# Altium schematic symbol library PLL Synthesizers and VCOs.SchLib: 183 symbols (part 9 of 15)
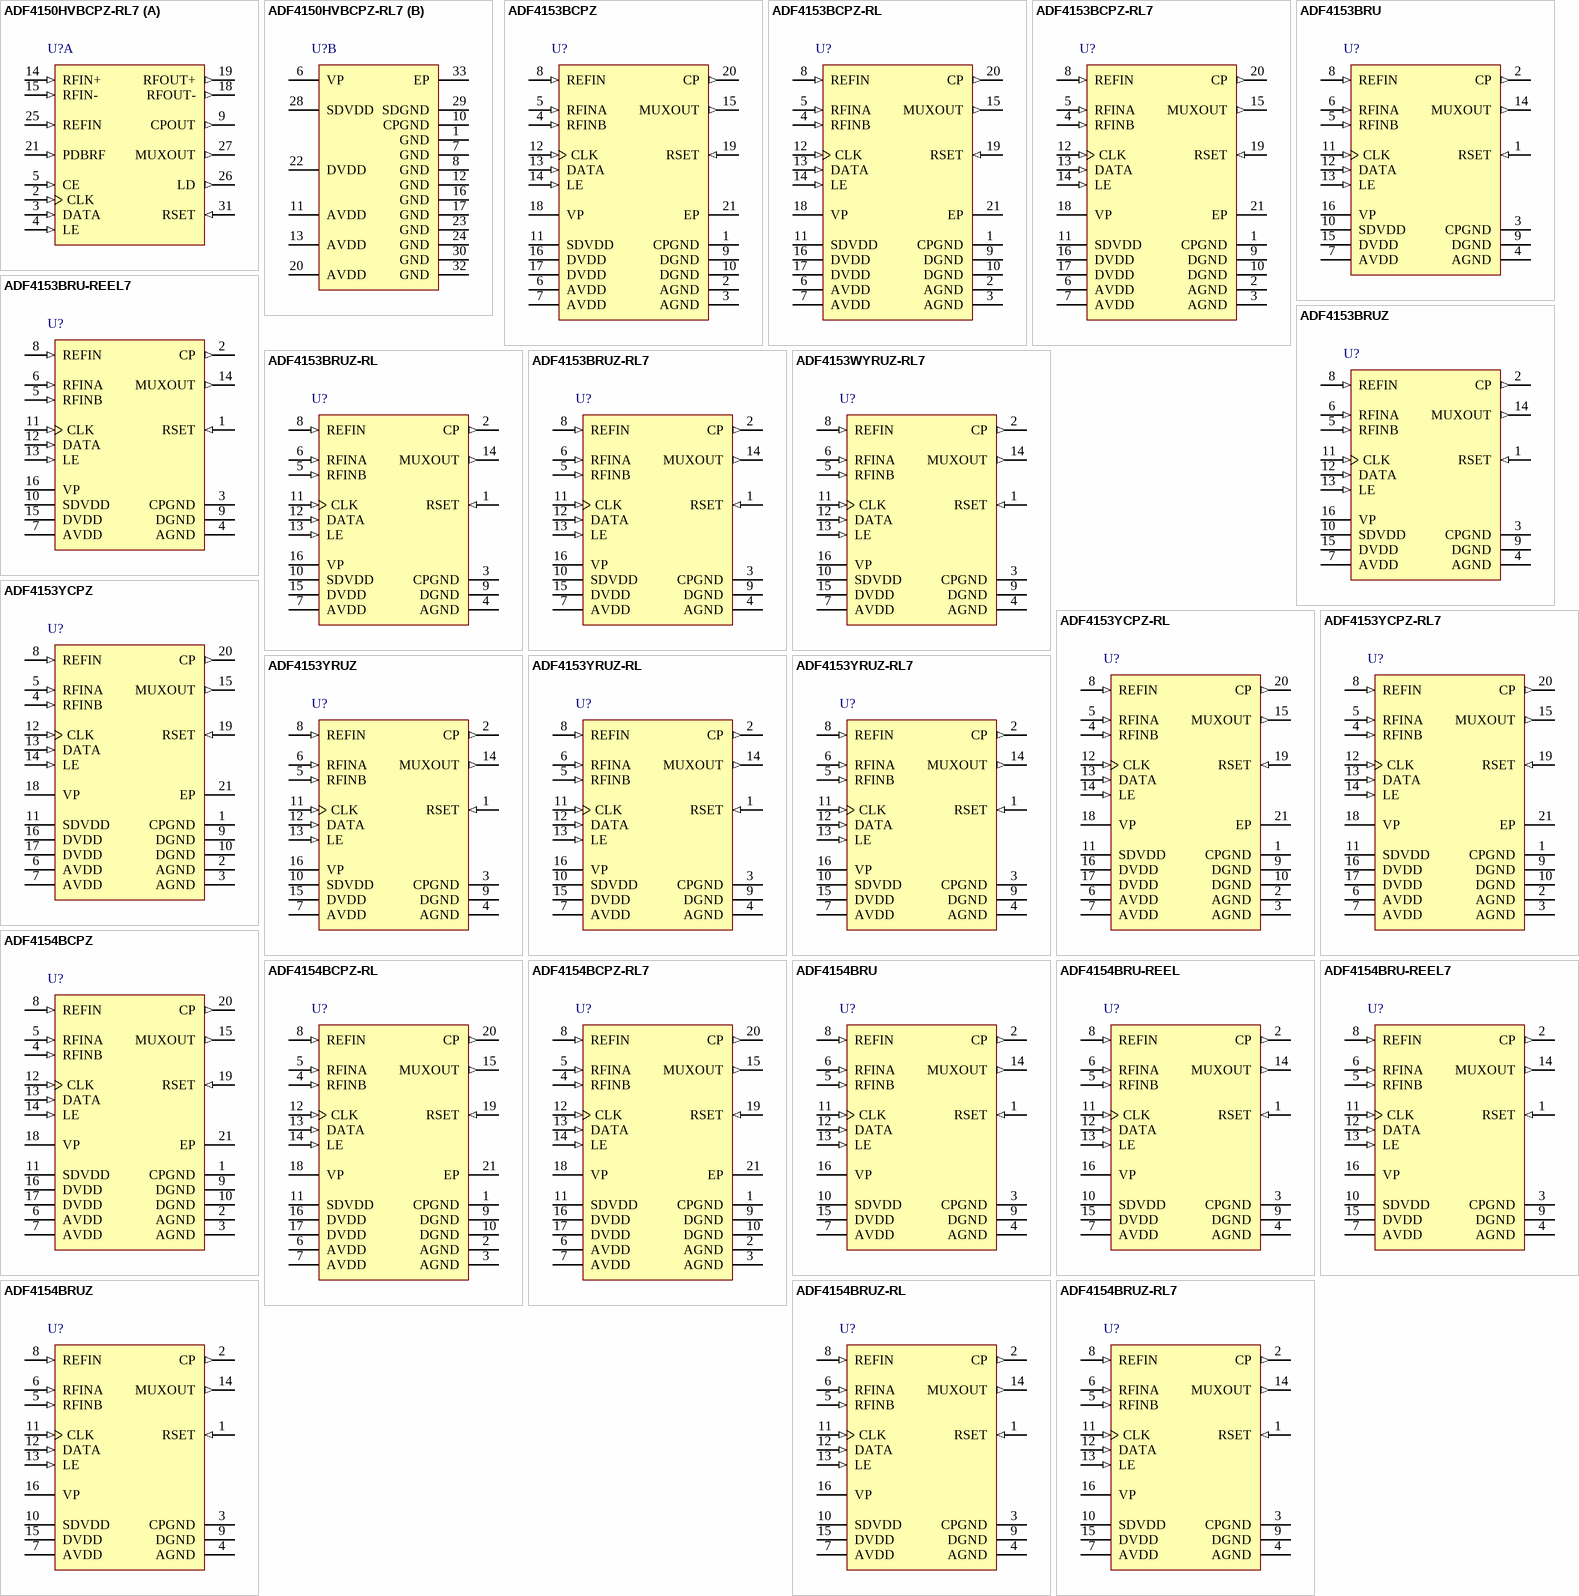
[diagram p16: symbols ADF4150HVBCPZ-RL7 to ADF4154BRUZ-RL7]

## ADF4153BRUZ-RL7
designator U?
Fractional-N Frequency Synthesizer, RU-16, Pb-Free, 1000 Reel; Single/Dual: Single; Max RF Input (MHz): 4GHz; RF Prescalers: 4/5, 8/9; Max REFin (MHz): 250MHz; Norm Phase Noise (dBc/Hz): -220dBc; Supply Current: 20mA; DatasheetVersion: RevD; PackageVersion: Nov-2002; PackageReference: RU-16; PackageDescription: 16-Lead Thin Shrink Small Outline Package [TSSOP]; Code_JEDEC: MO-153AB; ComponentLink1Description: Manufacturer URL; ComponentLink1URL: www.analog.com; ComponentLink2Description: Datasheet; ComponentLink2URL: http://www.analog.com/static/imported-files/data_sheets/ADF4153.pdf; ComponentLink3Description: Package Specification; ComponentLink3URL: http://www.analog.com/static/imported-files/packages/36244347913743854010197452789RU16.pdf
footprint ADI-RU-16_N (TSOP, 16-Leads, Body 5x4.4mm, Pitch 0.65mm, IPC Medium Density)
footprint ADI-RU-16_L (TSOP, 16-Leads, Body 5x4.4mm, Pitch 0.65mm, IPC High Density)
footprint ADI-RU-16_M (TSOP, 16-Leads, Body 5x4.4mm, Pitch 0.65mm, IPC Low Density)
pins: 1 RSET (in) "Connecting a resistor between RSET and ground sets the maximum charge pump output current", 2 CP (out) "Charge Pump Output. When enabled, CP provides +/-ICP to the external loop filter, which in turn drives the external VCO.", 3 CPGND (power) "Charge Pump Ground. This is the ground return path for the charge pump.", 4 AGND (power) "Analog Ground. This is the ground return path of the prescaler.", 5 RFINB (in) "Complementary Input to the RF Prescaler. This pin should be decoupled to the ground plane with a small bypass capacitor, typically 100 pF", 6 RFINA (in) "Input to the RF Prescaler. This small signal input is normally ac-coupled from the VCO.", 7 AVDD (power) "Positive Power Supply for the RF Section. Decoupling capacitors to the digital ground plane should be placed as close as possible to this pin. [see datasheet]", 8 REFIN (in) "Reference Input. This is a CMOS input with a nominal threshold of VDD/2 and an equivalent input resistance of 100 k ohm. [see datasheet]", 9 DGND (power) "Digital Ground.", 10 SDVDD (power) "Sigma-Delta Power. Decoupling capacitors to the digital ground plane should be placed as close as possible to this pin. SDVDD has a value of 3 V+/-10%. [see datasheet]", 11 CLK (in) "Serial Clock Input. The serial clock is used to clock in the serial data to the registers. The data is latched into the shift register on the CLK rising edge. [see datasheet]", 12 DATA (in) "Serial Data Input. The serial data is loaded MSB first; the two LSBs are the control bits. This input is a high impedance CMOS input.", 13 LE (in) "Load Enable, CMOS Input. When LE is high, the data stored in the shift registers is loaded into one of four latches; the latch is selected using the control bits.", 14 MUXOUT (out) "This multiplexer output allows either the RF lock detect, the scaled RF, or the scaled reference frequency to be externally accessed.", 15 DVDD (power) "Positive Power Supply for the Digital Section. Decoupling capacitors to the digital ground plane should be placed as close as possible to this pin. [see datasheet]", 16 VP (power) "Charge Pump Power Supply. This should be greater than or equal to VDD. In systems where VDD is 3 V, it can be set to 5.5 V and used to drive a VCO with a tuning range of up to 5.5 V."

## ADF4153WYRUZ-RL7
designator U?
Fractional-N Frequency Synthesizer, RU-16, Pb-Free, 1000 Reel; Single/Dual: Single; Max RF Input (MHz): 4GHz; RF Prescalers: 4/5, 8/9; Max REFin (MHz): 250MHz; Norm Phase Noise (dBc/Hz): -220dBc; Supply Current: 20mA; DatasheetVersion: RevD; PackageVersion: Nov-2002; PackageReference: RU-16; PackageDescription: 16-Lead Thin Shrink Small Outline Package [TSSOP]; Code_JEDEC: MO-153AB; ComponentLink1Description: Manufacturer URL; ComponentLink1URL: www.analog.com; ComponentLink2Description: Datasheet; ComponentLink2URL: http://www.analog.com/static/imported-files/data_sheets/ADF4153.pdf; ComponentLink3Description: Package Specification; ComponentLink3URL: http://www.analog.com/static/imported-files/packages/36244347913743854010197452789RU16.pdf
footprint ADI-RU-16_N (TSOP, 16-Leads, Body 5x4.4mm, Pitch 0.65mm, IPC Medium Density)
footprint ADI-RU-16_L (TSOP, 16-Leads, Body 5x4.4mm, Pitch 0.65mm, IPC High Density)
footprint ADI-RU-16_M (TSOP, 16-Leads, Body 5x4.4mm, Pitch 0.65mm, IPC Low Density)
pins: 1 RSET (in) "Connecting a resistor between RSET and ground sets the maximum charge pump output current", 2 CP (out) "Charge Pump Output. When enabled, CP provides +/-ICP to the external loop filter, which in turn drives the external VCO.", 3 CPGND (power) "Charge Pump Ground. This is the ground return path for the charge pump.", 4 AGND (power) "Analog Ground. This is the ground return path of the prescaler.", 5 RFINB (in) "Complementary Input to the RF Prescaler. This pin should be decoupled to the ground plane with a small bypass capacitor, typically 100 pF", 6 RFINA (in) "Input to the RF Prescaler. This small signal input is normally ac-coupled from the VCO.", 7 AVDD (power) "Positive Power Supply for the RF Section. Decoupling capacitors to the digital ground plane should be placed as close as possible to this pin. [see datasheet]", 8 REFIN (in) "Reference Input. This is a CMOS input with a nominal threshold of VDD/2 and an equivalent input resistance of 100 k ohm. [see datasheet]", 9 DGND (power) "Digital Ground.", 10 SDVDD (power) "Sigma-Delta Power. Decoupling capacitors to the digital ground plane should be placed as close as possible to this pin. SDVDD has a value of 3 V+/-10%. [see datasheet]", 11 CLK (in) "Serial Clock Input. The serial clock is used to clock in the serial data to the registers. The data is latched into the shift register on the CLK rising edge. [see datasheet]", 12 DATA (in) "Serial Data Input. The serial data is loaded MSB first; the two LSBs are the control bits. This input is a high impedance CMOS input.", 13 LE (in) "Load Enable, CMOS Input. When LE is high, the data stored in the shift registers is loaded into one of four latches; the latch is selected using the control bits.", 14 MUXOUT (out) "This multiplexer output allows either the RF lock detect, the scaled RF, or the scaled reference frequency to be externally accessed.", 15 DVDD (power) "Positive Power Supply for the Digital Section. Decoupling capacitors to the digital ground plane should be placed as close as possible to this pin. [see datasheet]", 16 VP (power) "Charge Pump Power Supply. This should be greater than or equal to VDD. In systems where VDD is 3 V, it can be set to 5.5 V and used to drive a VCO with a tuning range of up to 5.5 V."

## ADF4153YCPZ
designator U?
Fractional-N Frequency Synthesizer, CP-20-1, Pb-Free, 490 Tray; Single/Dual: Single; Max RF Input (MHz): 4GHz; RF Prescalers: 4/5, 8/9; Max REFin (MHz): 250MHz; Norm Phase Noise (dBc/Hz): -220dBc; Supply Current: 20mA; DatasheetVersion: RevD; PackageVersion: 012508-B; PackageReference: CP-20-1; PackageDescription: 20-Lead Lead Frame Chip Scale Package [LFCSP_VQ]; Code_JEDEC: MO-220-VGGD-1; ComponentLink1Description: Manufacturer URL; ComponentLink1URL: www.analog.com; ComponentLink2Description: Datasheet; ComponentLink2URL: http://www.analog.com/static/imported-files/data_sheets/ADF4153.pdf; ComponentLink3Description: Package Specification; ComponentLink3URL: http://www.analog.com/static/imported-files/packages/PKG_PDF/LFCSP(CP)/CP_20_1.pdf
footprint ADI-CP-20-1_N (QFN, 20-Leads, Body 4x4mm, Pitch 0.5mm, Thermal Pad 2.2x2.2mm, IPC Medium Density)
footprint ADI-CP-20-1_L (QFN, 20-Leads, Body 4x4mm, Pitch 0.5mm, Thermal Pad 2.2x2.2mm, IPC High Density)
footprint ADI-CP-20-1_M (QFN, 20-Leads, Body 4x4mm, Pitch 0.5mm, Thermal Pad 2.2x2.2mm, IPC Low Density)
pins: 1 CPGND (power) "Charge Pump Ground. This is the ground return path for the charge pump.", 2 AGND (power) "Analog Ground. This is the ground return path of the prescaler.", 3 AGND (power) "Analog Ground. This is the ground return path of the prescaler.", 4 RFINB (in) "Complementary Input to the RF Prescaler. This pin should be decoupled to the ground plane with a small bypass capacitor, typically 100 pF", 5 RFINA (in) "Input to the RF Prescaler. This small signal input is normally ac-coupled from the VCO.", 6 AVDD (power) "Positive Power Supply for the RF Section. Decoupling capacitors to the digital ground plane should be placed as close as possible to this pin. [see datasheet]", 7 AVDD (power) "Positive Power Supply for the RF Section. Decoupling capacitors to the digital ground plane should be placed as close as possible to this pin. [see datasheet]", 8 REFIN (in) "Reference Input. This is a CMOS input with a nominal threshold of VDD/2 and an equivalent input resistance of 100 k ohm. [see datasheet]", 9 DGND (power) "Digital Ground.", 10 DGND (power) "Digital Ground.", 11 SDVDD (power) "Sigma-delta Power. Decoupling capacitors to the digital ground plane should be placed as close as possible to this pin. SDVDD has a value of 3 V +/- 10%. [see datasheet]", 12 CLK (in) "Serial Clock Input. The serial clock is used to clock in the serial data to the registers. The data is latched into the shift register on the CLK rising edge. [see datasheet]", 13 DATA (in) "Serial Data Input. The serial data is loaded MSB first; the two LSBs are the control bits. This input is a high impedance CMOS input.", 14 LE (in) "Load Enable, CMOS Input. When LE is high, the data stored in the shift registers is loaded into one of four latches; the latch is selected using the control bits.", 15 MUXOUT (out) "This multiplexer output allows either the RF lock detect, the scaled RF, or the scaled reference frequency to be externally accessed.", 16 DVDD (power) "Positive Power Supply for the Digital Section. Decoupling capacitors to the digital ground plane should be placed as close as possible to this pin. [see datasheet]", 17 DVDD (power) "Positive Power Supply for the Digital Section. Decoupling capacitors to the digital ground plane should be placed as close as possible to this pin. [see datasheet]", 18 VP (power) "Charge Pump Power Supply. This should be greater than or equal to VDD. In systems where VDD is 3 V, it can be set to 5.5 V and used to drive a VCO with a tuning range of up to 5.5 V.", 19 RSET (in) "Connecting a resistor between RSET and ground sets the maximum charge pump output current", 20 CP (out) "Charge Pump Output. When enabled, CP provides +/-ICP to the external loop filter, which in turn drives the external VCO.", 21 EP (power) "Exposed Pad. The exposed pad must be connected to AGND."

## ADF4153YCPZ-RL
designator U?
Fractional-N Frequency Synthesizer, CP-20-1, Pb-Free, 5000 Tray; Single/Dual: Single; Max RF Input (MHz): 4GHz; RF Prescalers: 4/5, 8/9; Max REFin (MHz): 250MHz; Norm Phase Noise (dBc/Hz): -220dBc; Supply Current: 20mA; DatasheetVersion: RevD; PackageVersion: 012508-B; PackageReference: CP-20-1; PackageDescription: 20-Lead Lead Frame Chip Scale Package [LFCSP_VQ]; Code_JEDEC: MO-220-VGGD-1; ComponentLink1Description: Manufacturer URL; ComponentLink1URL: www.analog.com; ComponentLink2Description: Datasheet; ComponentLink2URL: http://www.analog.com/static/imported-files/data_sheets/ADF4153.pdf; ComponentLink3Description: Package Specification; ComponentLink3URL: http://www.analog.com/static/imported-files/packages/PKG_PDF/LFCSP(CP)/CP_20_1.pdf
footprint ADI-CP-20-1_N (QFN, 20-Leads, Body 4x4mm, Pitch 0.5mm, Thermal Pad 2.2x2.2mm, IPC Medium Density)
footprint ADI-CP-20-1_L (QFN, 20-Leads, Body 4x4mm, Pitch 0.5mm, Thermal Pad 2.2x2.2mm, IPC High Density)
footprint ADI-CP-20-1_M (QFN, 20-Leads, Body 4x4mm, Pitch 0.5mm, Thermal Pad 2.2x2.2mm, IPC Low Density)
pins: 1 CPGND (power) "Charge Pump Ground. This is the ground return path for the charge pump.", 2 AGND (power) "Analog Ground. This is the ground return path of the prescaler.", 3 AGND (power) "Analog Ground. This is the ground return path of the prescaler.", 4 RFINB (in) "Complementary Input to the RF Prescaler. This pin should be decoupled to the ground plane with a small bypass capacitor, typically 100 pF", 5 RFINA (in) "Input to the RF Prescaler. This small signal input is normally ac-coupled from the VCO.", 6 AVDD (power) "Positive Power Supply for the RF Section. Decoupling capacitors to the digital ground plane should be placed as close as possible to this pin. [see datasheet]", 7 AVDD (power) "Positive Power Supply for the RF Section. Decoupling capacitors to the digital ground plane should be placed as close as possible to this pin. [see datasheet]", 8 REFIN (in) "Reference Input. This is a CMOS input with a nominal threshold of VDD/2 and an equivalent input resistance of 100 k ohm. [see datasheet]", 9 DGND (power) "Digital Ground.", 10 DGND (power) "Digital Ground.", 11 SDVDD (power) "Sigma-delta Power. Decoupling capacitors to the digital ground plane should be placed as close as possible to this pin. SDVDD has a value of 3 V +/- 10%. [see datasheet]", 12 CLK (in) "Serial Clock Input. The serial clock is used to clock in the serial data to the registers. The data is latched into the shift register on the CLK rising edge. [see datasheet]", 13 DATA (in) "Serial Data Input. The serial data is loaded MSB first; the two LSBs are the control bits. This input is a high impedance CMOS input.", 14 LE (in) "Load Enable, CMOS Input. When LE is high, the data stored in the shift registers is loaded into one of four latches; the latch is selected using the control bits.", 15 MUXOUT (out) "This multiplexer output allows either the RF lock detect, the scaled RF, or the scaled reference frequency to be externally accessed.", 16 DVDD (power) "Positive Power Supply for the Digital Section. Decoupling capacitors to the digital ground plane should be placed as close as possible to this pin. [see datasheet]", 17 DVDD (power) "Positive Power Supply for the Digital Section. Decoupling capacitors to the digital ground plane should be placed as close as possible to this pin. [see datasheet]", 18 VP (power) "Charge Pump Power Supply. This should be greater than or equal to VDD. In systems where VDD is 3 V, it can be set to 5.5 V and used to drive a VCO with a tuning range of up to 5.5 V.", 19 RSET (in) "Connecting a resistor between RSET and ground sets the maximum charge pump output current", 20 CP (out) "Charge Pump Output. When enabled, CP provides +/-ICP to the external loop filter, which in turn drives the external VCO.", 21 EP (power) "Exposed Pad. The exposed pad must be connected to AGND."

## ADF4153YCPZ-RL7
designator U?
Fractional-N Frequency Synthesizer, CP-20-1, Pb-Free, 1000 Reel; Single/Dual: Single; Max RF Input (MHz): 4GHz; RF Prescalers: 4/5, 8/9; Max REFin (MHz): 250MHz; Norm Phase Noise (dBc/Hz): -220dBc; Supply Current: 20mA; DatasheetVersion: RevD; PackageVersion: 012508-B; PackageReference: CP-20-1; PackageDescription: 20-Lead Lead Frame Chip Scale Package [LFCSP_VQ]; Code_JEDEC: MO-220-VGGD-1; ComponentLink1Description: Manufacturer URL; ComponentLink1URL: www.analog.com; ComponentLink2Description: Datasheet; ComponentLink2URL: http://www.analog.com/static/imported-files/data_sheets/ADF4153.pdf; ComponentLink3Description: Package Specification; ComponentLink3URL: http://www.analog.com/static/imported-files/packages/PKG_PDF/LFCSP(CP)/CP_20_1.pdf
footprint ADI-CP-20-1_N (QFN, 20-Leads, Body 4x4mm, Pitch 0.5mm, Thermal Pad 2.2x2.2mm, IPC Medium Density)
footprint ADI-CP-20-1_L (QFN, 20-Leads, Body 4x4mm, Pitch 0.5mm, Thermal Pad 2.2x2.2mm, IPC High Density)
footprint ADI-CP-20-1_M (QFN, 20-Leads, Body 4x4mm, Pitch 0.5mm, Thermal Pad 2.2x2.2mm, IPC Low Density)
pins: 1 CPGND (power) "Charge Pump Ground. This is the ground return path for the charge pump.", 2 AGND (power) "Analog Ground. This is the ground return path of the prescaler.", 3 AGND (power) "Analog Ground. This is the ground return path of the prescaler.", 4 RFINB (in) "Complementary Input to the RF Prescaler. This pin should be decoupled to the ground plane with a small bypass capacitor, typically 100 pF", 5 RFINA (in) "Input to the RF Prescaler. This small signal input is normally ac-coupled from the VCO.", 6 AVDD (power) "Positive Power Supply for the RF Section. Decoupling capacitors to the digital ground plane should be placed as close as possible to this pin. [see datasheet]", 7 AVDD (power) "Positive Power Supply for the RF Section. Decoupling capacitors to the digital ground plane should be placed as close as possible to this pin. [see datasheet]", 8 REFIN (in) "Reference Input. This is a CMOS input with a nominal threshold of VDD/2 and an equivalent input resistance of 100 k ohm. [see datasheet]", 9 DGND (power) "Digital Ground.", 10 DGND (power) "Digital Ground.", 11 SDVDD (power) "Sigma-delta Power. Decoupling capacitors to the digital ground plane should be placed as close as possible to this pin. SDVDD has a value of 3 V +/- 10%. [see datasheet]", 12 CLK (in) "Serial Clock Input. The serial clock is used to clock in the serial data to the registers. The data is latched into the shift register on the CLK rising edge. [see datasheet]", 13 DATA (in) "Serial Data Input. The serial data is loaded MSB first; the two LSBs are the control bits. This input is a high impedance CMOS input.", 14 LE (in) "Load Enable, CMOS Input. When LE is high, the data stored in the shift registers is loaded into one of four latches; the latch is selected using the control bits.", 15 MUXOUT (out) "This multiplexer output allows either the RF lock detect, the scaled RF, or the scaled reference frequency to be externally accessed.", 16 DVDD (power) "Positive Power Supply for the Digital Section. Decoupling capacitors to the digital ground plane should be placed as close as possible to this pin. [see datasheet]", 17 DVDD (power) "Positive Power Supply for the Digital Section. Decoupling capacitors to the digital ground plane should be placed as close as possible to this pin. [see datasheet]", 18 VP (power) "Charge Pump Power Supply. This should be greater than or equal to VDD. In systems where VDD is 3 V, it can be set to 5.5 V and used to drive a VCO with a tuning range of up to 5.5 V.", 19 RSET (in) "Connecting a resistor between RSET and ground sets the maximum charge pump output current", 20 CP (out) "Charge Pump Output. When enabled, CP provides +/-ICP to the external loop filter, which in turn drives the external VCO.", 21 EP (power) "Exposed Pad. The exposed pad must be connected to AGND."

## ADF4153YRUZ
designator U?
Fractional-N Frequency Synthesizer, RU-16, Pb-Free, 96 Tube; Single/Dual: Single; Max RF Input (MHz): 4GHz; RF Prescalers: 4/5, 8/9; Max REFin (MHz): 250MHz; Norm Phase Noise (dBc/Hz): -220dBc; Supply Current: 20mA; DatasheetVersion: RevD; PackageVersion: Nov-2002; PackageReference: RU-16; PackageDescription: 16-Lead Thin Shrink Small Outline Package [TSSOP]; Code_JEDEC: MO-153AB; ComponentLink1Description: Manufacturer URL; ComponentLink1URL: www.analog.com; ComponentLink2Description: Datasheet; ComponentLink2URL: http://www.analog.com/static/imported-files/data_sheets/ADF4153.pdf; ComponentLink3Description: Package Specification; ComponentLink3URL: http://www.analog.com/static/imported-files/packages/36244347913743854010197452789RU16.pdf
footprint ADI-RU-16_N (TSOP, 16-Leads, Body 5x4.4mm, Pitch 0.65mm, IPC Medium Density)
footprint ADI-RU-16_L (TSOP, 16-Leads, Body 5x4.4mm, Pitch 0.65mm, IPC High Density)
footprint ADI-RU-16_M (TSOP, 16-Leads, Body 5x4.4mm, Pitch 0.65mm, IPC Low Density)
pins: 1 RSET (in) "Connecting a resistor between RSET and ground sets the maximum charge pump output current", 2 CP (out) "Charge Pump Output. When enabled, CP provides +/-ICP to the external loop filter, which in turn drives the external VCO.", 3 CPGND (power) "Charge Pump Ground. This is the ground return path for the charge pump.", 4 AGND (power) "Analog Ground. This is the ground return path of the prescaler.", 5 RFINB (in) "Complementary Input to the RF Prescaler. This pin should be decoupled to the ground plane with a small bypass capacitor, typically 100 pF", 6 RFINA (in) "Input to the RF Prescaler. This small signal input is normally ac-coupled from the VCO.", 7 AVDD (power) "Positive Power Supply for the RF Section. Decoupling capacitors to the digital ground plane should be placed as close as possible to this pin. [see datasheet]", 8 REFIN (in) "Reference Input. This is a CMOS input with a nominal threshold of VDD/2 and an equivalent input resistance of 100 k ohm. [see datasheet]", 9 DGND (power) "Digital Ground.", 10 SDVDD (power) "Sigma-Delta Power. Decoupling capacitors to the digital ground plane should be placed as close as possible to this pin. SDVDD has a value of 3 V+/-10%. [see datasheet]", 11 CLK (in) "Serial Clock Input. The serial clock is used to clock in the serial data to the registers. The data is latched into the shift register on the CLK rising edge. [see datasheet]", 12 DATA (in) "Serial Data Input. The serial data is loaded MSB first; the two LSBs are the control bits. This input is a high impedance CMOS input.", 13 LE (in) "Load Enable, CMOS Input. When LE is high, the data stored in the shift registers is loaded into one of four latches; the latch is selected using the control bits.", 14 MUXOUT (out) "This multiplexer output allows either the RF lock detect, the scaled RF, or the scaled reference frequency to be externally accessed.", 15 DVDD (power) "Positive Power Supply for the Digital Section. Decoupling capacitors to the digital ground plane should be placed as close as possible to this pin. [see datasheet]", 16 VP (power) "Charge Pump Power Supply. This should be greater than or equal to VDD. In systems where VDD is 3 V, it can be set to 5.5 V and used to drive a VCO with a tuning range of up to 5.5 V."

## ADF4153YRUZ-RL
designator U?
Fractional-N Frequency Synthesizer, RU-16, Pb-Free, 2500 Reel; Single/Dual: Single; Max RF Input (MHz): 4GHz; RF Prescalers: 4/5, 8/9; Max REFin (MHz): 250MHz; Norm Phase Noise (dBc/Hz): -220dBc; Supply Current: 20mA; DatasheetVersion: RevD; PackageVersion: Nov-2002; PackageReference: RU-16; PackageDescription: 16-Lead Thin Shrink Small Outline Package [TSSOP]; Code_JEDEC: MO-153AB; ComponentLink1Description: Manufacturer URL; ComponentLink1URL: www.analog.com; ComponentLink2Description: Datasheet; ComponentLink2URL: http://www.analog.com/static/imported-files/data_sheets/ADF4153.pdf; ComponentLink3Description: Package Specification; ComponentLink3URL: http://www.analog.com/static/imported-files/packages/36244347913743854010197452789RU16.pdf
footprint ADI-RU-16_N (TSOP, 16-Leads, Body 5x4.4mm, Pitch 0.65mm, IPC Medium Density)
footprint ADI-RU-16_L (TSOP, 16-Leads, Body 5x4.4mm, Pitch 0.65mm, IPC High Density)
footprint ADI-RU-16_M (TSOP, 16-Leads, Body 5x4.4mm, Pitch 0.65mm, IPC Low Density)
pins: 1 RSET (in) "Connecting a resistor between RSET and ground sets the maximum charge pump output current", 2 CP (out) "Charge Pump Output. When enabled, CP provides +/-ICP to the external loop filter, which in turn drives the external VCO.", 3 CPGND (power) "Charge Pump Ground. This is the ground return path for the charge pump.", 4 AGND (power) "Analog Ground. This is the ground return path of the prescaler.", 5 RFINB (in) "Complementary Input to the RF Prescaler. This pin should be decoupled to the ground plane with a small bypass capacitor, typically 100 pF", 6 RFINA (in) "Input to the RF Prescaler. This small signal input is normally ac-coupled from the VCO.", 7 AVDD (power) "Positive Power Supply for the RF Section. Decoupling capacitors to the digital ground plane should be placed as close as possible to this pin. [see datasheet]", 8 REFIN (in) "Reference Input. This is a CMOS input with a nominal threshold of VDD/2 and an equivalent input resistance of 100 k ohm. [see datasheet]", 9 DGND (power) "Digital Ground.", 10 SDVDD (power) "Sigma-Delta Power. Decoupling capacitors to the digital ground plane should be placed as close as possible to this pin. SDVDD has a value of 3 V+/-10%. [see datasheet]", 11 CLK (in) "Serial Clock Input. The serial clock is used to clock in the serial data to the registers. The data is latched into the shift register on the CLK rising edge. [see datasheet]", 12 DATA (in) "Serial Data Input. The serial data is loaded MSB first; the two LSBs are the control bits. This input is a high impedance CMOS input.", 13 LE (in) "Load Enable, CMOS Input. When LE is high, the data stored in the shift registers is loaded into one of four latches; the latch is selected using the control bits.", 14 MUXOUT (out) "This multiplexer output allows either the RF lock detect, the scaled RF, or the scaled reference frequency to be externally accessed.", 15 DVDD (power) "Positive Power Supply for the Digital Section. Decoupling capacitors to the digital ground plane should be placed as close as possible to this pin. [see datasheet]", 16 VP (power) "Charge Pump Power Supply. This should be greater than or equal to VDD. In systems where VDD is 3 V, it can be set to 5.5 V and used to drive a VCO with a tuning range of up to 5.5 V."

## ADF4153YRUZ-RL7
designator U?
Fractional-N Frequency Synthesizer, RU-16, Pb-Free, 1000 Reel; Single/Dual: Single; Max RF Input (MHz): 4GHz; RF Prescalers: 4/5, 8/9; Max REFin (MHz): 250MHz; Norm Phase Noise (dBc/Hz): -220dBc; Supply Current: 20mA; DatasheetVersion: RevD; PackageVersion: Nov-2002; PackageReference: RU-16; PackageDescription: 16-Lead Thin Shrink Small Outline Package [TSSOP]; Code_JEDEC: MO-153AB; ComponentLink1Description: Manufacturer URL; ComponentLink1URL: www.analog.com; ComponentLink2Description: Datasheet; ComponentLink2URL: http://www.analog.com/static/imported-files/data_sheets/ADF4153.pdf; ComponentLink3Description: Package Specification; ComponentLink3URL: http://www.analog.com/static/imported-files/packages/36244347913743854010197452789RU16.pdf
footprint ADI-RU-16_N (TSOP, 16-Leads, Body 5x4.4mm, Pitch 0.65mm, IPC Medium Density)
footprint ADI-RU-16_L (TSOP, 16-Leads, Body 5x4.4mm, Pitch 0.65mm, IPC High Density)
footprint ADI-RU-16_M (TSOP, 16-Leads, Body 5x4.4mm, Pitch 0.65mm, IPC Low Density)
pins: 1 RSET (in) "Connecting a resistor between RSET and ground sets the maximum charge pump output current", 2 CP (out) "Charge Pump Output. When enabled, CP provides +/-ICP to the external loop filter, which in turn drives the external VCO.", 3 CPGND (power) "Charge Pump Ground. This is the ground return path for the charge pump.", 4 AGND (power) "Analog Ground. This is the ground return path of the prescaler.", 5 RFINB (in) "Complementary Input to the RF Prescaler. This pin should be decoupled to the ground plane with a small bypass capacitor, typically 100 pF", 6 RFINA (in) "Input to the RF Prescaler. This small signal input is normally ac-coupled from the VCO.", 7 AVDD (power) "Positive Power Supply for the RF Section. Decoupling capacitors to the digital ground plane should be placed as close as possible to this pin. [see datasheet]", 8 REFIN (in) "Reference Input. This is a CMOS input with a nominal threshold of VDD/2 and an equivalent input resistance of 100 k ohm. [see datasheet]", 9 DGND (power) "Digital Ground.", 10 SDVDD (power) "Sigma-Delta Power. Decoupling capacitors to the digital ground plane should be placed as close as possible to this pin. SDVDD has a value of 3 V+/-10%. [see datasheet]", 11 CLK (in) "Serial Clock Input. The serial clock is used to clock in the serial data to the registers. The data is latched into the shift register on the CLK rising edge. [see datasheet]", 12 DATA (in) "Serial Data Input. The serial data is loaded MSB first; the two LSBs are the control bits. This input is a high impedance CMOS input.", 13 LE (in) "Load Enable, CMOS Input. When LE is high, the data stored in the shift registers is loaded into one of four latches; the latch is selected using the control bits.", 14 MUXOUT (out) "This multiplexer output allows either the RF lock detect, the scaled RF, or the scaled reference frequency to be externally accessed.", 15 DVDD (power) "Positive Power Supply for the Digital Section. Decoupling capacitors to the digital ground plane should be placed as close as possible to this pin. [see datasheet]", 16 VP (power) "Charge Pump Power Supply. This should be greater than or equal to VDD. In systems where VDD is 3 V, it can be set to 5.5 V and used to drive a VCO with a tuning range of up to 5.5 V."

## ADF4154BCPZ
designator U?
Fractional-N Frequency Synthesizer, CP-20-1, Pb-Free, 490 Tray; Single/Dual: Single; Max RF Input (MHz): 4GHz; RF Prescalers: 4/5, 8/9; Max REFin (MHz): 250MHz; Norm Phase Noise (dBc/Hz): -220dBc; Supply Current: 20mA; DatasheetVersion: RevB; PackageVersion: 012508-B; PackageReference: CP-20-1; PackageDescription: 20-Lead Lead Frame Chip Scale Package [LFCSP_VQ]; Code_JEDEC: MO-220-VGGD-1; ComponentLink1Description: Manufacturer URL; ComponentLink1URL: www.analog.com; ComponentLink2Description: Datasheet; ComponentLink2URL: http://www.analog.com/static/imported-files/data_sheets/ADF4154.pdf; ComponentLink3Description: Package Specification; ComponentLink3URL: http://www.analog.com/static/imported-files/packages/PKG_PDF/LFCSP(CP)/CP_20_1.pdf
footprint ADI-CP-20-1_N (QFN, 20-Leads, Body 4x4mm, Pitch 0.5mm, Thermal Pad 2.2x2.2mm, IPC Medium Density)
footprint ADI-CP-20-1_L (QFN, 20-Leads, Body 4x4mm, Pitch 0.5mm, Thermal Pad 2.2x2.2mm, IPC High Density)
footprint ADI-CP-20-1_M (QFN, 20-Leads, Body 4x4mm, Pitch 0.5mm, Thermal Pad 2.2x2.2mm, IPC Low Density)
pins: 1 CPGND (power) "Charge Pump Ground. This is the ground return path for the charge pump.", 2 AGND (power) "Analog Ground. This is the ground return path of the prescaler.", 3 AGND (power) "Analog Ground. This is the ground return path of the prescaler.", 4 RFINB (in) "Complementary Input to the RF Prescaler. This point should be decoupled to the ground plane with a small bypass capacitor, typically 100 pF.", 5 RFINA (in) "Input to the RF Prescaler. This small-signal input is normally ac-coupled from the VCO.", 6 AVDD (power) "Positive Power Supply for the RF Section. Decoupling capacitors to the digital ground plane should be placed as close as possible to this pin. [see datasheet]", 7 AVDD (power) "Positive Power Supply for the RF Section. Decoupling capacitors to the digital ground plane should be placed as close as possible to this pin. [see datasheet]", 8 REFIN (in) "Reference Input. This CMOS input has a nominal threshold of VDD/2 and an equivalent input resistance of 100 k ohm. [see datasheet]", 9 DGND (power) "Digital Ground.", 10 DGND (power) "Digital Ground.", 11 SDVDD (power) "Sigma-Delta Power. Decoupling capacitors to the digital ground plane should be placed as close as possible to this pin. SDVDD has a value of 3 V +/- 10%. [see datasheet]", 12 CLK (in) "Serial Clock Input. This serial clock is used to clock in the serial data to the registers. The data is latched into the shift register on the CLK rising edge. [see datasheet]", 13 DATA (in) "Serial Data Input. The serial data is loaded MSB first with the two LSBs as the control bits. This input is a high impedance CMOS input.", 14 LE (in) "Load Enable, CMOS Input. When LE is high, the data stored in the shift registers is loaded into one of the four latches, which is selected by the user via the control bits.", 15 MUXOUT (out) "Multiplexer Output. This pin allows either the RF lock detect, the scaled RF, or the scaled reference frequency to be accessed externally.", 16 DVDD (power) "Positive Power Supply for the Digital Section. Decoupling capacitors to the digital ground plane should be placed as close as possible to this pin. [see datasheet]", 17 DVDD (power) "Positive Power Supply for the Digital Section. Decoupling capacitors to the digital ground plane should be placed as close as possible to this pin. [see datasheet]", 18 VP (power) "Charge Pump Power Supply. This should be greater than or equal to VDD. In systems where VDD is 3 V, it can be set to 5.5 V and used to drive a VCO with a tuning range of up to 5.5 V.", 19 RSET (in) "Set Resistor. Connecting a resistor between this pin and ground sets the maximum charge pump output current.", 20 CP (out) "Charge Pump Output. When enabled, this pin provides +/-ICP to the external loop filter, which in turn drives the external VCO.", 21 EP (power) "Exposed Pad. The exposed pad must be connected to AGND."

## ADF4154BCPZ-RL
designator U?
Fractional-N Frequency Synthesizer, CP-20-1, Pb-Free, 5000 Reel; Single/Dual: Single; Max RF Input (MHz): 4GHz; RF Prescalers: 4/5, 8/9; Max REFin (MHz): 250MHz; Norm Phase Noise (dBc/Hz): -220dBc; Supply Current: 20mA; DatasheetVersion: RevB; PackageVersion: 012508-B; PackageReference: CP-20-1; PackageDescription: 20-Lead Lead Frame Chip Scale Package [LFCSP_VQ]; Code_JEDEC: MO-220-VGGD-1; ComponentLink1Description: Manufacturer URL; ComponentLink1URL: www.analog.com; ComponentLink2Description: Datasheet; ComponentLink2URL: http://www.analog.com/static/imported-files/data_sheets/ADF4154.pdf; ComponentLink3Description: Package Specification; ComponentLink3URL: http://www.analog.com/static/imported-files/packages/PKG_PDF/LFCSP(CP)/CP_20_1.pdf
footprint ADI-CP-20-1_N (QFN, 20-Leads, Body 4x4mm, Pitch 0.5mm, Thermal Pad 2.2x2.2mm, IPC Medium Density)
footprint ADI-CP-20-1_L (QFN, 20-Leads, Body 4x4mm, Pitch 0.5mm, Thermal Pad 2.2x2.2mm, IPC High Density)
footprint ADI-CP-20-1_M (QFN, 20-Leads, Body 4x4mm, Pitch 0.5mm, Thermal Pad 2.2x2.2mm, IPC Low Density)
pins: 1 CPGND (power) "Charge Pump Ground. This is the ground return path for the charge pump.", 2 AGND (power) "Analog Ground. This is the ground return path of the prescaler.", 3 AGND (power) "Analog Ground. This is the ground return path of the prescaler.", 4 RFINB (in) "Complementary Input to the RF Prescaler. This point should be decoupled to the ground plane with a small bypass capacitor, typically 100 pF.", 5 RFINA (in) "Input to the RF Prescaler. This small-signal input is normally ac-coupled from the VCO.", 6 AVDD (power) "Positive Power Supply for the RF Section. Decoupling capacitors to the digital ground plane should be placed as close as possible to this pin. [see datasheet]", 7 AVDD (power) "Positive Power Supply for the RF Section. Decoupling capacitors to the digital ground plane should be placed as close as possible to this pin. [see datasheet]", 8 REFIN (in) "Reference Input. This CMOS input has a nominal threshold of VDD/2 and an equivalent input resistance of 100 k ohm. [see datasheet]", 9 DGND (power) "Digital Ground.", 10 DGND (power) "Digital Ground.", 11 SDVDD (power) "Sigma-Delta Power. Decoupling capacitors to the digital ground plane should be placed as close as possible to this pin. SDVDD has a value of 3 V +/- 10%. [see datasheet]", 12 CLK (in) "Serial Clock Input. This serial clock is used to clock in the serial data to the registers. The data is latched into the shift register on the CLK rising edge. [see datasheet]", 13 DATA (in) "Serial Data Input. The serial data is loaded MSB first with the two LSBs as the control bits. This input is a high impedance CMOS input.", 14 LE (in) "Load Enable, CMOS Input. When LE is high, the data stored in the shift registers is loaded into one of the four latches, which is selected by the user via the control bits.", 15 MUXOUT (out) "Multiplexer Output. This pin allows either the RF lock detect, the scaled RF, or the scaled reference frequency to be accessed externally.", 16 DVDD (power) "Positive Power Supply for the Digital Section. Decoupling capacitors to the digital ground plane should be placed as close as possible to this pin. [see datasheet]", 17 DVDD (power) "Positive Power Supply for the Digital Section. Decoupling capacitors to the digital ground plane should be placed as close as possible to this pin. [see datasheet]", 18 VP (power) "Charge Pump Power Supply. This should be greater than or equal to VDD. In systems where VDD is 3 V, it can be set to 5.5 V and used to drive a VCO with a tuning range of up to 5.5 V.", 19 RSET (in) "Set Resistor. Connecting a resistor between this pin and ground sets the maximum charge pump output current.", 20 CP (out) "Charge Pump Output. When enabled, this pin provides +/-ICP to the external loop filter, which in turn drives the external VCO.", 21 EP (power) "Exposed Pad. The exposed pad must be connected to AGND."

## ADF4154BCPZ-RL7
designator U?
Fractional-N Frequency Synthesizer, CP-20-1, Pb-Free, 1500 Reel; Single/Dual: Single; Max RF Input (MHz): 4GHz; RF Prescalers: 4/5, 8/9; Max REFin (MHz): 250MHz; Norm Phase Noise (dBc/Hz): -220dBc; Supply Current: 20mA; DatasheetVersion: RevB; PackageVersion: 012508-B; PackageReference: CP-20-1; PackageDescription: 20-Lead Lead Frame Chip Scale Package [LFCSP_VQ]; Code_JEDEC: MO-220-VGGD-1; ComponentLink1Description: Manufacturer URL; ComponentLink1URL: www.analog.com; ComponentLink2Description: Datasheet; ComponentLink2URL: http://www.analog.com/static/imported-files/data_sheets/ADF4154.pdf; ComponentLink3Description: Package Specification; ComponentLink3URL: http://www.analog.com/static/imported-files/packages/PKG_PDF/LFCSP(CP)/CP_20_1.pdf
footprint ADI-CP-20-1_N (QFN, 20-Leads, Body 4x4mm, Pitch 0.5mm, Thermal Pad 2.2x2.2mm, IPC Medium Density)
footprint ADI-CP-20-1_L (QFN, 20-Leads, Body 4x4mm, Pitch 0.5mm, Thermal Pad 2.2x2.2mm, IPC High Density)
footprint ADI-CP-20-1_M (QFN, 20-Leads, Body 4x4mm, Pitch 0.5mm, Thermal Pad 2.2x2.2mm, IPC Low Density)
pins: 1 CPGND (power) "Charge Pump Ground. This is the ground return path for the charge pump.", 2 AGND (power) "Analog Ground. This is the ground return path of the prescaler.", 3 AGND (power) "Analog Ground. This is the ground return path of the prescaler.", 4 RFINB (in) "Complementary Input to the RF Prescaler. This point should be decoupled to the ground plane with a small bypass capacitor, typically 100 pF.", 5 RFINA (in) "Input to the RF Prescaler. This small-signal input is normally ac-coupled from the VCO.", 6 AVDD (power) "Positive Power Supply for the RF Section. Decoupling capacitors to the digital ground plane should be placed as close as possible to this pin. [see datasheet]", 7 AVDD (power) "Positive Power Supply for the RF Section. Decoupling capacitors to the digital ground plane should be placed as close as possible to this pin. [see datasheet]", 8 REFIN (in) "Reference Input. This CMOS input has a nominal threshold of VDD/2 and an equivalent input resistance of 100 k ohm. [see datasheet]", 9 DGND (power) "Digital Ground.", 10 DGND (power) "Digital Ground.", 11 SDVDD (power) "Sigma-Delta Power. Decoupling capacitors to the digital ground plane should be placed as close as possible to this pin. SDVDD has a value of 3 V +/- 10%. [see datasheet]", 12 CLK (in) "Serial Clock Input. This serial clock is used to clock in the serial data to the registers. The data is latched into the shift register on the CLK rising edge. [see datasheet]", 13 DATA (in) "Serial Data Input. The serial data is loaded MSB first with the two LSBs as the control bits. This input is a high impedance CMOS input.", 14 LE (in) "Load Enable, CMOS Input. When LE is high, the data stored in the shift registers is loaded into one of the four latches, which is selected by the user via the control bits.", 15 MUXOUT (out) "Multiplexer Output. This pin allows either the RF lock detect, the scaled RF, or the scaled reference frequency to be accessed externally.", 16 DVDD (power) "Positive Power Supply for the Digital Section. Decoupling capacitors to the digital ground plane should be placed as close as possible to this pin. [see datasheet]", 17 DVDD (power) "Positive Power Supply for the Digital Section. Decoupling capacitors to the digital ground plane should be placed as close as possible to this pin. [see datasheet]", 18 VP (power) "Charge Pump Power Supply. This should be greater than or equal to VDD. In systems where VDD is 3 V, it can be set to 5.5 V and used to drive a VCO with a tuning range of up to 5.5 V.", 19 RSET (in) "Set Resistor. Connecting a resistor between this pin and ground sets the maximum charge pump output current.", 20 CP (out) "Charge Pump Output. When enabled, this pin provides +/-ICP to the external loop filter, which in turn drives the external VCO.", 21 EP (power) "Exposed Pad. The exposed pad must be connected to AGND."

## ADF4154BRU
designator U?
Fractional-N Frequency Synthesizer, RU-16, blank, 96 Tube; Single/Dual: Single; Max RF Input (MHz): 4GHz; RF Prescalers: 4/5, 8/9; Max REFin (MHz): 250MHz; Norm Phase Noise (dBc/Hz): -220dBc; Supply Current: 20mA; DatasheetVersion: RevB; PackageVersion: Nov-2002; PackageReference: RU-16; PackageDescription: 16-Lead Thin Shrink Small Outline Package [TSSOP]; Code_JEDEC: MO-153AB; ComponentLink1Description: Manufacturer URL; ComponentLink1URL: www.analog.com; ComponentLink2Description: Datasheet; ComponentLink2URL: http://www.analog.com/static/imported-files/data_sheets/ADF4154.pdf; ComponentLink3Description: Package Specification; ComponentLink3URL: http://www.analog.com/static/imported-files/packages/36244347913743854010197452789RU16.pdf
footprint ADI-RU-16_N (TSOP, 16-Leads, Body 5x4.4mm, Pitch 0.65mm, IPC Medium Density)
footprint ADI-RU-16_L (TSOP, 16-Leads, Body 5x4.4mm, Pitch 0.65mm, IPC High Density)
footprint ADI-RU-16_M (TSOP, 16-Leads, Body 5x4.4mm, Pitch 0.65mm, IPC Low Density)
pins: 1 RSET (in) "Set Resistor. Connecting a resistor between this pin and ground sets the maximum charge pump output current.", 2 CP (out) "Charge Pump Output. When enabled, this pin provides +/-ICP to the external loop filter, which in turn drives the external VCO.", 3 CPGND (power) "Charge Pump Ground. This is the ground return path for the charge pump.", 4 AGND (power) "Analog Ground. This is the ground return path of the prescaler.", 5 RFINB (in) "Complementary Input to the RF Prescaler. This point should be decoupled to the ground plane with a small bypass capacitor, typically 100 pF.", 6 RFINA (in) "Input to the RF Prescaler. This small-signal input is normally ac-coupled from the VCO.", 7 AVDD (power) "Positive Power Supply for the RF Section. Decoupling capacitors to the digital ground plane should be placed as close as possible to this pin. [see datasheet]", 8 REFIN (in) "Reference Input. This CMOS input has a nominal threshold of VDD/2 and an equivalent input resistance of 100 k ohm. [see datasheet]", 9 DGND (power) "Digital Ground.", 10 SDVDD (power) "Sigma-Delta Power. Decoupling capacitors to the digital ground plane should be placed as close as possible to this pin. SDVDD has a value of 3 V +/- 10%. [see datasheet]", 11 CLK (in) "Serial Clock Input. This serial clock is used to clock in the serial data to the registers. The data is latched into the shift register on the CLK rising edge. [see datasheet]", 12 DATA (in) "Serial Data Input. The serial data is loaded MSB first with the two LSBs as the control bits. This input is a high impedance CMOS input.", 13 LE (in) "Load Enable, CMOS Input. When LE is high, the data stored in the shift registers is loaded into one of the four latches, which is selected by the user via the control bits.", 14 MUXOUT (out) "Multiplexer Output. This pin allows either the RF lock detect, the scaled RF, or the scaled reference frequency to be accessed externally.", 15 DVDD (power) "Positive Power Supply for the Digital Section. Decoupling capacitors to the digital ground plane should be placed as close as possible to this pin. [see datasheet]", 16 VP (power) "Charge Pump Power Supply. This should be greater than or equal to VDD. In systems where VDD is 3 V, it can be set to 5.5 V and used to drive a VCO with a tuning range of up to 5.5 V."

## ADF4154BRU-REEL
designator U?
Fractional-N Frequency Synthesizer, RU-16, blank, 2500 Reel; Single/Dual: Single; Max RF Input (MHz): 4GHz; RF Prescalers: 4/5, 8/9; Max REFin (MHz): 250MHz; Norm Phase Noise (dBc/Hz): -220dBc; Supply Current: 20mA; DatasheetVersion: RevB; PackageVersion: Nov-2002; PackageReference: RU-16; PackageDescription: 16-Lead Thin Shrink Small Outline Package [TSSOP]; Code_JEDEC: MO-153AB; ComponentLink1Description: Manufacturer URL; ComponentLink1URL: www.analog.com; ComponentLink2Description: Datasheet; ComponentLink2URL: http://www.analog.com/static/imported-files/data_sheets/ADF4154.pdf; ComponentLink3Description: Package Specification; ComponentLink3URL: http://www.analog.com/static/imported-files/packages/36244347913743854010197452789RU16.pdf
footprint ADI-RU-16_N (TSOP, 16-Leads, Body 5x4.4mm, Pitch 0.65mm, IPC Medium Density)
footprint ADI-RU-16_L (TSOP, 16-Leads, Body 5x4.4mm, Pitch 0.65mm, IPC High Density)
footprint ADI-RU-16_M (TSOP, 16-Leads, Body 5x4.4mm, Pitch 0.65mm, IPC Low Density)
pins: 1 RSET (in) "Set Resistor. Connecting a resistor between this pin and ground sets the maximum charge pump output current.", 2 CP (out) "Charge Pump Output. When enabled, this pin provides +/-ICP to the external loop filter, which in turn drives the external VCO.", 3 CPGND (power) "Charge Pump Ground. This is the ground return path for the charge pump.", 4 AGND (power) "Analog Ground. This is the ground return path of the prescaler.", 5 RFINB (in) "Complementary Input to the RF Prescaler. This point should be decoupled to the ground plane with a small bypass capacitor, typically 100 pF.", 6 RFINA (in) "Input to the RF Prescaler. This small-signal input is normally ac-coupled from the VCO.", 7 AVDD (power) "Positive Power Supply for the RF Section. Decoupling capacitors to the digital ground plane should be placed as close as possible to this pin. [see datasheet]", 8 REFIN (in) "Reference Input. This CMOS input has a nominal threshold of VDD/2 and an equivalent input resistance of 100 k ohm. [see datasheet]", 9 DGND (power) "Digital Ground.", 10 SDVDD (power) "Sigma-Delta Power. Decoupling capacitors to the digital ground plane should be placed as close as possible to this pin. SDVDD has a value of 3 V +/- 10%. [see datasheet]", 11 CLK (in) "Serial Clock Input. This serial clock is used to clock in the serial data to the registers. The data is latched into the shift register on the CLK rising edge. [see datasheet]", 12 DATA (in) "Serial Data Input. The serial data is loaded MSB first with the two LSBs as the control bits. This input is a high impedance CMOS input.", 13 LE (in) "Load Enable, CMOS Input. When LE is high, the data stored in the shift registers is loaded into one of the four latches, which is selected by the user via the control bits.", 14 MUXOUT (out) "Multiplexer Output. This pin allows either the RF lock detect, the scaled RF, or the scaled reference frequency to be accessed externally.", 15 DVDD (power) "Positive Power Supply for the Digital Section. Decoupling capacitors to the digital ground plane should be placed as close as possible to this pin. [see datasheet]", 16 VP (power) "Charge Pump Power Supply. This should be greater than or equal to VDD. In systems where VDD is 3 V, it can be set to 5.5 V and used to drive a VCO with a tuning range of up to 5.5 V."